# Altium footprint library 513002B02500G.PcbLib: 1 footprints
Each footprint in its own frame and in the unit in brackets; x right, y up, seen from the top. Pads: shape width x height; smd on the part's side, far side on the other; paste and mask are expansions set on the pad; w line width, h text height; cw(c..) or ccw(c..) is an arc to the next point about the centre after c.
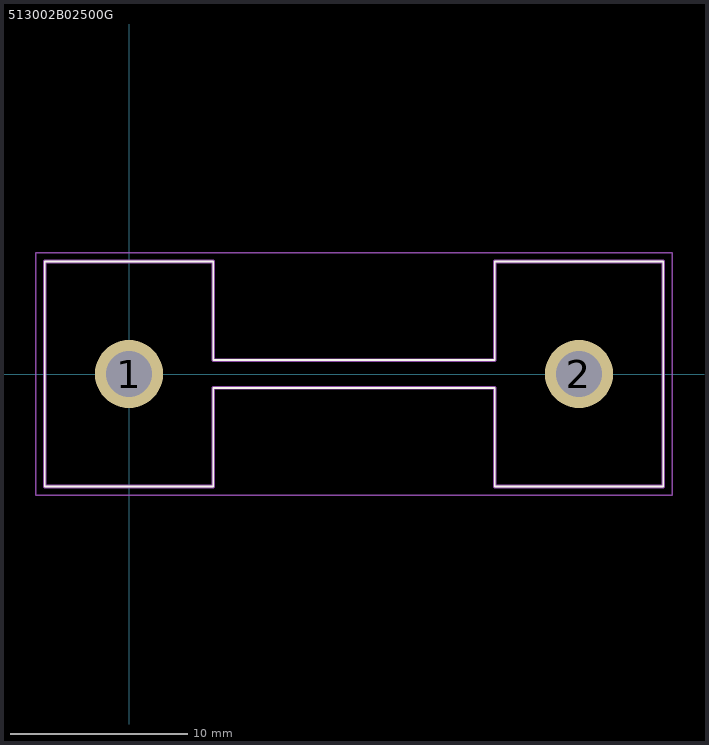
[diagram p0: the footprint, top view; thin cyan lines are the x and y axes]

## 513002B02500G [mm]
pads (2):
  round 3.855 hole 2.57: 1(0,0) 2(25.4,0)
Top Overlay:
  lines w0.1: -4.76,-6.35 4.76,-6.35 4.76,-0.785 20.64,-0.785 20.64,-6.35 30.16,-6.35 30.16,6.35 20.64,6.35 20.64,0.785 4.76,0.785 4.76,6.35 -4.76,6.35 -4.76,-6.35
Mechanical 15:
  lines w0.2: -4.76,-6.35 -4.76,6.35 4.76,6.35 4.76,0.785 20.64,0.785 20.64,6.35 30.16,6.35 30.16,-6.35 20.64,-6.35 20.64,-0.785 4.76,-0.785 4.76,-6.35 -4.76,-6.35
Mechanical 20:
  lines w0.1: -5.26,-6.85 30.66,-6.85 30.66,6.85 -5.26,6.85 -5.26,-6.85